# Altium footprint library Ahrist_Library.PcbLib: 172 footprints (part 5 of 11)
Each footprint in its own frame and in the unit in brackets; x right, y up, seen from the top. Pads: shape width x height; smd on the part's side, far side on the other; paste and mask are expansions set on the pad; w line width, h text height; cw(c..) or ccw(c..) is an arc to the next point about the centre after c.
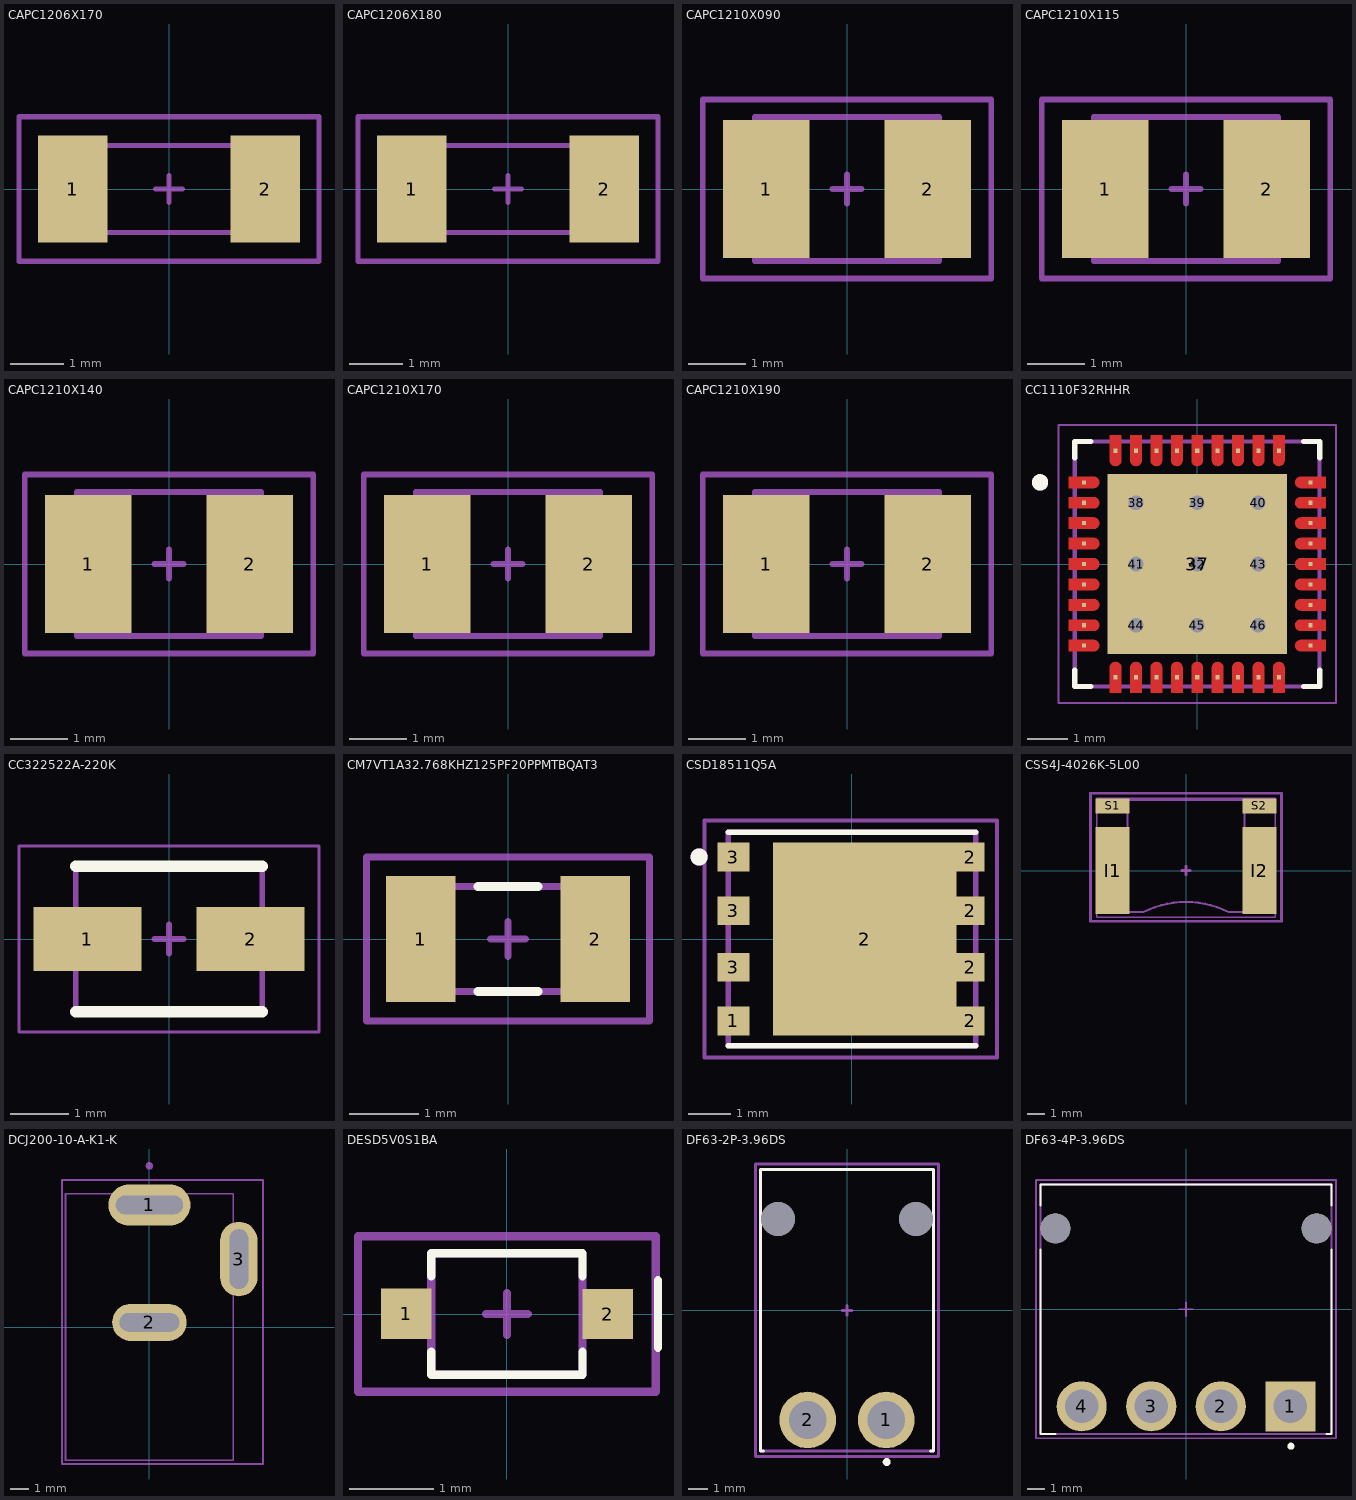
[diagram p4: the footprints below, top view; thin cyan lines are the x and y axes]

## CAPC1206X170 [mm]
pads (2):
  rect 1.3x2 smd mask+0.075: 1(-1.8,0) 2(1.8,0)
Top Courtyard:
  lines w0.1: -2.8,-1.35 -2.8,1.35 -2.425,1.35 2.8,1.35 2.8,-1.35 -2.8,-1.35
Top Assembly:
  lines w0.1: -1.6,-0.813 1.6,-0.813 1.6,0.813 -1.6,0.813 -1.6,-0.813
Top Designator:
  text ".Designator" at -0.805,-0.105 h0.3
Top Component Center:
  lines w0.1: 0,-0.25 0,0 ; 0,0 0,0.25 0,0 ; 0,0 0.25,0 -0.25,0 0,0
3D body "C1206_170.step": height 1.7, standoff 0, extent -1.6,-0.8 1.6,0.8

## CAPC1206X180 [mm] "Chip Capacitor, 2-Leads, Body 3.2x1.60mm, IPC Medium Density"
pads (2):
  rect 1.3x2 smd mask+0.075: 1(-1.8,0) 2(1.8,0)
Top Courtyard:
  lines w0.1: -2.8,-1.35 2.8,-1.35 2.8,1.35 -2.425,1.35 -2.8,1.35 -2.8,-1.35
Top Assembly:
  lines w0.1: -1.6,-0.813 -1.6,0.813 1.6,0.813 1.6,-0.813 -1.6,-0.813
Top Designator:
  text ".Designator" at -0.805,-0.105 h0.3
Top Component Center:
  lines w0.1: 0,-0.25 0,0 ; 0,0 -0.25,0 0.25,0 0,0 ; 0,0 0,0.25 0,0
3D body "C1206_180.step": height 1.8, standoff 0, extent -1.6,-0.8 1.6,0.8

## CAPC1210X090 [mm] "1210 Ceramic Capacitor"
pads (2):
  rect 1.5x2.4 smd mask+0.075: 1(-1.4,0) 2(1.4,0)
Top Courtyard:
  lines w0.1: -2.5,-1.55 2.5,-1.55 2.5,1.55 -2.5,1.55 -2.5,-1.5 -2.5,-1.55
Top Assembly:
  lines w0.1: -1.6,-1.25 -1.6,1.25 1.6,1.25 1.6,-1.25 -1.6,-1.25
Top Designator:
  text ".Designator" at -0.43,-0.263 h0.5
Top Component Center:
  lines w0.1: 0,-0.25 0,0 ; 0,0 -0.25,0 0.25,0 0,0 ; 0,0 0,0.25 0,0
3D body "C1210_090.step": height 0.9, standoff 0, extent -1.6,-1.25 1.6,1.25

## CAPC1210X115 [mm] "1210 Ceramic Capacitor"
pads (2):
  rect 1.5x2.4 smd mask+0.075: 1(-1.4,0) 2(1.4,0)
Top Courtyard:
  lines w0.1: -2.5,-1.55 -2.5,-1.5 -2.5,1.55 2.5,1.55 2.5,-1.55 -2.5,-1.55
Top Assembly:
  lines w0.1: -1.6,-1.25 1.6,-1.25 1.6,1.25 -1.6,1.25 -1.6,-1.25
Top Designator:
  text ".Designator" at -0.43,-0.263 h0.5
Top Component Center:
  lines w0.1: 0,-0.25 0,0 ; 0,0 -0.25,0 0.25,0 0,0 ; 0,0 0,0.25 0,0
3D body "C1210_115.step": height 1.15, standoff 0, extent -1.6,-1.25 1.6,1.25

## CAPC1210X140 [mm] "1210 Ceramic Capacitor"
pads (2):
  rect 1.5x2.4 smd mask+0.075: 1(-1.4,0) 2(1.4,0)
Top Courtyard:
  lines w0.1: -2.5,-1.55 2.5,-1.55 2.5,1.55 -2.5,1.55 -2.5,-1.5 -2.5,-1.55
Top Assembly:
  lines w0.1: -1.6,-1.25 -1.6,1.25 1.6,1.25 1.6,-1.25 -1.6,-1.25
Top Designator:
  text ".Designator" at -0.43,-0.263 h0.5
Top Component Center:
  lines w0.1: 0,-0.25 0,0 ; 0,0 -0.25,0 0.25,0 0,0 ; 0,0 0,0.25 0,0
3D body "C1210_140.step": height 1.4, standoff 0, extent -1.6,-1.25 1.6,1.25

## CAPC1210X170 [mm] "1210 Ceramic Capacitor"
pads (2):
  rect 1.5x2.4 smd mask+0.075: 1(-1.4,0) 2(1.4,0)
Top Courtyard:
  lines w0.1: -2.5,-1.55 -2.5,-1.5 -2.5,1.55 2.5,1.55 2.5,-1.55 -2.5,-1.55
Top Assembly:
  lines w0.1: -1.6,-1.25 1.6,-1.25 1.6,1.25 -1.6,1.25 -1.6,-1.25
Top Designator:
  text ".Designator" at -0.43,-0.263 h0.5
Top Component Center:
  lines w0.1: 0,-0.25 0,0 ; 0,0 -0.25,0 0.25,0 0,0 ; 0,0 0,0.25 0,0
3D body "C1210_170.step": height 1.7, standoff 0, extent -1.6,-1.25 1.6,1.25

## CAPC1210X190 [mm] "1210 Ceramic Capacitor"
pads (2):
  rect 1.5x2.4 smd mask+0.075: 1(-1.4,0) 2(1.4,0)
Top Courtyard:
  lines w0.1: -2.5,-1.55 -2.5,-1.5 -2.5,1.55 2.5,1.55 2.5,-1.55 -2.5,-1.55
Top Assembly:
  lines w0.1: -1.6,-1.25 1.6,-1.25 1.6,1.25 -1.6,1.25 -1.6,-1.25
Top Designator:
  text ".Designator" at -0.43,-0.263 h0.5
Top Component Center:
  lines w0.1: 0,-0.25 0,0 ; 0,0 0,0.25 0,0 ; 0,0 0.25,0 -0.25,0 0,0
3D body "C1210_190.step": height 1.9, standoff 0, extent -1.6,-1.25 1.6,1.25

## CC1110F32RHHR [mm] "IC RF TXRX+MCU ISM<1GHZ 36VQFN"
pads (46):
  rect 0.1x0.1 smd paste-1 mask+0: 1(-2.775,2) 2(-2.775,1.5) 3(-2.775,1) 4(-2.775,0.5) 5(-2.775,0) 6(-2.775,-0.5) 7(-2.775,-1) 8(-2.775,-1.5) 9(-2.775,-2) 10(-2,-2.775) 11(-1.5,-2.775) 12(-1,-2.775) 13(-0.5,-2.775) 14(0,-2.775) 15(0.5,-2.775) 16(1,-2.775) 17(1.5,-2.775) 18(2,-2.775) 19(2.775,-2) 20(2.775,-1.5) 21(2.775,-1) 22(2.775,-0.5) 23(2.775,0) 24(2.775,0.5) 25(2.775,1) 26(2.775,1.5) 27(2.775,2) 28(2,2.775) 29(1.5,2.775) 30(1,2.775) 31(0.5,2.775) 32(0,2.775) 33(-0.5,2.775) 34(-1,2.775) 35(-1.5,2.775) 36(-2,2.775)
  rect 4.4x4.4 smd paste-3: 37(0,0)
  round 0.5 hole 0.356 mask+0: 38(-1.5,1.5) 39(0,1.5) 40(1.5,1.5) 41(-1.5,0) 42(0,0) 43(1.5,0) 44(-1.5,-1.5) 45(0,-1.5) 46(1.5,-1.5)
Top Layer:
  drawing of 36 lines, arcs and shapes, not listed
Top Overlay:
  circle w0.2: c-3.85,2 r0.1
  lines w0.127: -3,-2.6 -3,-3 -2.6,-3 ; -3,2.6 -3,3 -2.6,3 ; 2.6,-3 3,-3 3,-2.6 ; 2.6,3 3,3 3,2.6
Top Paste:
  drawing of 52 lines, arcs and shapes, not listed
Top Solder:
  drawing of 36 lines, arcs and shapes, not listed
Top Courtyard:
  lines w0.05: -3.4,-3.4 -3.4,3.4 3.4,3.4 3.4,-3.4 -3.4,-3.4
Top Assembly:
  circle w0.2: c-3.85,2 r0.1
  lines w0.1: -3,-3 3,-3 3,3 -3,3 -3,-3
Top Designator:
  text ".Designator" at -1.11,0.36 h0.6
Top Component Center:
  lines w0.15: 0,-0.25 0,0 ; 0,0 0,0.25 0,0 ; 0,0 0.25,0 -0.25,0 0,0
3D body "step_temp.STEP": height 1, standoff 0, extent -3,-3 3,3

## CC322522A-220K [mm] "3.2mm x 2.5mm Inductor"
pads (2):
  rect 1.85x1.1 smd: 1(-1.4,0) 2(1.4,0)
Top Overlay:
  lines w0.2: -1.6,-1.25 1.6,-1.25 ; -1.6,1.25 1.6,1.25
Top Courtyard:
  lines w0.05: -2.575,-1.6 2.575,-1.6 2.575,1.6 -2.575,1.6 -2.575,-1.6
Top Assembly:
  lines w0.1: -1.6,-1.25 1.6,-1.25 1.6,1.25 -1.6,1.25 -1.6,-1.25
Top Designator:
  text ".Designator" at -0.836,-0.167 h0.6
Top Component Outline:
  lines w0.1: -1.6,-1.25 1.6,-1.25 1.6,1.25 -1.6,1.25 -1.6,-1.25
Top Component Center:
  lines w0.1: 0,-0.25 0,0 ; 0,0 -0.25,0 0.25,0 0,0 ; 0,0 0,0.25 0,0
3D body "CC322522A-220K.stp": height 2.3, standoff 0, extent -1.796,-1.25 1.796,1.25

## CM7VT1A32.768KHZ125PF20PPMTBQAT3 [mm] "SMD-2 Crystal"
pads (2):
  rect 1x1.8 smd mask+0.075: 1(-1.25,0) 2(1.25,0)
Top Overlay:
  lines w0.127: -0.43,-0.75 0.43,-0.75 ; -0.43,0.75 0.43,0.75
Top Courtyard:
  lines w0.1: -2.025,-1.175 2.025,-1.175 2.025,1.175 -2.025,1.175 -2.025,-1.175
Top Assembly:
  lines w0.1: -1.6,-0.75 1.6,-0.75 1.6,0.75 -1.6,0.75 -1.6,-0.75
Top Component Outline:
  lines w0.1: -1.6,-0.75 -1.6,0.75 1.6,0.75 1.6,-0.75 0.55,-0.75 -1.6,-0.75
Top Component Center:
  lines w0.1: 0,-0.25 0,0 ; 0,0 0,0.25 0,0 ; 0,0 0.25,0 -0.25,0 0,0
3D body "step_temp.STEP": height 0.65, standoff 0, extent -1.6,-0.75 1.6,0.75

## CSD18511Q5A [mm] "40-V, N channel NexFET™ power MOSFET, single SON 5 mm x 6 mm, 2.3 mOhm"
pads (9):
  rect 0.75x0.675 smd paste-1 mask+0.075: 1(-2.776,-1.917) 3(-2.776,-0.66) 3(-2.776,0.66) 3(-2.776,1.917)
  rect 4.295x4.51 smd paste-3 mask+0.075: 2(0.301,0)
  rect 0.655x0.675 smd paste-1 mask+0.075: 2(2.776,-1.917) 2(2.776,-0.66) 2(2.776,0.66) 2(2.776,1.917)
Top Overlay:
  circle w0.3: c-3.578,1.921 r0.05
  lines w0.127: -2.9,-2.5 2.9,-2.5 ; -2.9,2.5 2.9,2.5
Top Paste:
  region: -2.526,-2.171 -3.031,-2.171 -3.031,-1.667 -2.526,-1.667
  region: -2.526,-0.91 -3.026,-0.91 -3.026,-0.41 -2.526,-0.41
  region: -2.526,0.41 -3.027,0.41 -3.027,0.91 -2.526,0.91
  region: -2.526,1.67 -3.03,1.67 -3.03,2.167 -2.526,2.167
  region: 3.026,-2.172 2.531,-2.172 2.531,-1.667 3.026,-1.667
  region: 3.026,-0.91 2.528,-0.91 2.528,-0.41 3.026,-0.41
  region: 3.026,0.41 2.528,0.41 2.528,0.91 3.026,0.91
  region: 3.026,1.668 2.527,1.668 2.527,2.167 3.026,2.167
  region: 1.911,-1.882 0.327,-1.882 0.327,-0.31 1.911,-0.31
  region: -0.174,-1.883 -1.411,-1.883 -1.411,-0.31 -0.174,-0.31
  region: 1.911,0.31 0.327,0.31 0.327,1.88 1.911,1.88
  region: -0.174,0.31 -1.409,0.31 -1.409,1.88 -0.174,1.88
Top Courtyard:
  lines w0.1: -3.45,-2.775 3.4,-2.775 3.4,2.775 -3.45,2.775 -3.45,-2.775
Top Assembly:
  circle w0.3: c-3.575,1.925 r0.05
  lines w0.127: -2.9,-2.5 2.9,-2.5 2.9,2.5 -2.9,2.5 -2.9,-2.5
Top Designator:
  text ".Designator" at -1,-0.312 h1
Top Component Outline:
  lines w0.127: -2.9,-2.5 2.9,-2.5 2.9,2.5 -2.9,2.5 -2.9,-2.5
Top Component Center:
  lines w0.15: 0,-0.25 0,0 ; 0,0 0,0.25 0,0 ; 0,0 0.25,0 -0.25,0 0,0
3D body "CSD18511Q5A.STEP": height 1.1, standoff 0, extent -3,-2.45 3,2.45

## CSS4J-4026K-5L00 [mm] "5 mOhms ±1% 3W Chip Resistor Nonstandard Automotive AEC-Q200, Current Sense Metal Element"
pads (4):
  rect 2x5.1 smd paste-4 mask+0.075: I1(-4.325,0) I2(4.325,0)
  rect 2x0.9 smd mask+0.075: S1(-4.325,3.8) S2(4.325,3.8)
Top Paste:
  region: 4.75,0.15 3.9,0.15 3.9,2.25 4.75,2.25
  region: 4.75,-2.25 3.9,-2.25 3.9,-0.15 4.75,-0.15
  region: -3.9,0.15 -4.75,0.15 -4.75,2.25 -3.9,2.25
  region: -3.9,-2.25 -4.75,-2.25 -4.75,-0.15 -3.9,-0.15
Top Courtyard:
  lines w0.15: -5.625,3 -5.625,-3 5.625,-3 5.625,4.55 -5.625,4.55 -5.625,3.7 ; -5.625,3.025 -5.625,3.675
Top Assembly:
  lines w0.127: -5.03,-2.45 -2.5,-2.45 cw(c0,-7.358) 0,-1.85 cw(c0,-7.358) 2.501,-2.45 5.03,-2.45 5.03,2.45 3.45,2.45 3.45,3.45 5.03,3.45 5.03,4.15 -5.03,4.15 -5.03,3.45 -3.45,3.45 -3.45,2.45 -5.03,2.45 -5.03,-2.45
Top Designator:
  text ".Designator" at -1.565,1.01 h0.6
Top Component Outline:
  lines w0.127: -5.03,-2.45 -2.5,-2.45 cw(c0,-7.358) 0,-1.85 cw(c0,-7.358) 2.501,-2.45 5.03,-2.45 5.03,2.45 3.45,2.45 3.45,3.45 5.03,3.45 5.03,4.15 -5.03,4.15 -5.03,3.45 -3.45,3.45 -3.45,2.45 -5.03,2.45 -5.03,-2.45
Mechanical 15:
  lines w0.1: -5.25,-2.75 5.25,-2.75 5.25,4.25 -5.25,4.25 -5.25,3 -5.25,-2.75
Top Component Center:
  lines w0.15: 0,-0.25 0,0 ; 0,0 -0.25,0 0.25,0 0,0 ; 0,0 0,0.25 0,0
3D body "step_temp.STEP": height 3.21, standoff 0, extent -5.03,-2.411 5.03,4.189

## DCJ200-10-A-K1-K [mm] "Power Barrel Connector Jack 2.05mm ID (0.081\"), 5.50mm OD (0.217\") Through Hole, Right Angle"
pads (3):
  oval 4.4x2.2 hole 1 slot 3.6 at 0 deg: 1(0,6.55)
  oval 4x2 hole 1 slot 3.2 at 0 deg: 2(0,0.25)
  oval 2x4 hole 1 slot 3.2 at 90 deg: 3(4.8,3.65)
Top Courtyard:
  lines w0.1: -4.7,-7.35 -4.7,7.9 6.1,7.9 6.1,-7.35 -4.7,-7.35
Top Assembly:
  circle w0.2: c0,8.65 r0.1
  lines w0.1: -4.5,-7.15 4.5,-7.15 4.5,7.15 -4.5,7.15 -4.5,-7.15
Top Designator:
  text ".Designator" at -1.075,1.6 h2
Top Component Center:
  lines w0.1: 0,-0.25 0,0 ; 0,0 -0.25,0 0.25,0 0,0 ; 0,0 0,0.25 0,0
3D body "step_temp.STEP": height 11, standoff -3.5, extent -4.5,-7.15 5.05,7.15

## DESD5V0S1BA [mm] "DESD5V0S1BA SOD323"
pads (2):
  rect 0.6x0.6 smd mask+0.075: 1(-1.2,0.001) 2(1.2,0)
Top Overlay:
  lines w0.1: -0.9,-0.45 -0.9,-0.725 0.9,-0.725 0.9,-0.45 ; -0.9,0.45 -0.9,0.725 0.9,0.725 0.9,0.45 ; 1.8,-0.4 1.8,0 1.8,0.4
Top Courtyard:
  lines w0.1: -1.775,-0.925 -0.125,-0.925 1.775,-0.925 1.775,0.125 1.775,0.925 -1.775,0.925 -1.775,-0.925
Top Assembly:
  lines w0.1: -0.9,-0.725 0.05,-0.725 0.9,-0.725 0.9,0.725 -0.9,0.725 -0.9,-0.725
Top Component Center:
  lines w0.1: -0.25,0 0,0 ; 0,-0.25 0,0 ; 0,0.25 0,0 ; 0.25,0 0,0
3D body "SOD-323.STEP": height 1.17, standoff 0.02, extent -1.35,-0.723 1.35,0.723

## DF63-2P-3.96DS [mm] "Conn Wire to Board HDR 4 POS 3.96mm Solder RA Thru-Hole 2 Terminal 1 Port Bag"
pads (4):
  round 2.85 hole 1.9: 1(1.98,-5.53) 2(-1.98,-5.53)
  round 1.7 hole 1.7 unplated: ""(-3.48,4.6) ""(3.48,4.6)
Top Overlay:
  circle w0.2: c2,-7.65 r0.1
  lines w0.15: -4.35,6.975 -4.35,-7 -4.35,-7.1 -4.2,-7.1 ; -4.35,7 -4.35,7.1 -4.2,7.1 4.2,7.1 4.35,7.1 4.35,7 ; 4.2,-7.1 4.35,-7.1 4.35,-7 4.35,6.975
Top Courtyard:
  lines w0.15: -4.625,-1.1 -4.625,-7.375 4.625,-7.375 4.625,7.375 -4.625,7.375 -4.625,-1.075
Top Assembly:
  lines w0.15: -4.35,6.975 -4.35,-7 -4.35,-7.1 -4.2,-7.1 ; -4.35,7 -4.35,7.1 -4.2,7.1 4.2,7.1 4.35,7.1 4.35,7 ; -4.175,-7.1 4.225,-7.1 ; 4.2,-7.1 4.35,-7.1 4.35,-7 4.35,6.975
Top Designator:
  text ".Designator" at -2.5,0.286 h1.52
Top Component Outline:
  lines w0.15: -4.35,6.975 -4.35,-7 -4.35,-7.1 -4.2,-7.1 ; -4.35,7 -4.35,7.1 -4.2,7.1 4.2,7.1 4.35,7.1 4.35,7 ; -4.175,-7.1 4.225,-7.1 ; 4.2,-7.1 4.35,-7.1 4.35,-7 4.35,6.975
Top Component Center:
  lines w0.15: 0,-0.25 0,0 ; 0,0 0,0.25 0,0 ; 0,0 0.25,0 -0.25,0 0,0
3D body "DF63M-2P-3.96DS.stp": height 9, standoff -3.5, extent -4.33,-7.1 4.33,7.1

## DF63-4P-3.96DS [mm] "Conn Wire to Board HDR 4 POS 3.96mm Solder RA Thru-Hole 4 Terminal 1 Port Bag"
pads (6):
  rect 2.85x2.85 hole 1.9: 1(5.94,-5.53)
  round 2.85 hole 1.9: 2(1.98,-5.53) 3(-1.98,-5.53) 4(-5.94,-5.53)
  round 1.7 hole 1.7 unplated: ""(-7.44,4.6) ""(7.44,4.6)
Top Overlay:
  circle w0.2: c5.975,-7.8 r0.1
  lines w0.127: -8.29,3.4 -8.29,-7.1 -7.44,-7.1 ; -8.29,5.9 -8.29,7.1 8.29,7.1 8.29,5.9 ; 8,-7.1 8.29,-7.1 8.29,3.4
Top Courtyard:
  lines w0.1: -8.54,-7.35 -8.54,7.35 8.54,7.35 8.54,-7.35 -8.54,-7.35
Top Assembly:
  lines w0.127: -8.29,-7.1 -8.29,7.1 8.29,7.1 8.29,-7.1 -8.29,-7.1
Top Designator:
  text ".Designator" at -2.5,0.286 h1.52
Top Component Center:
  lines w0.1: -0.4,0 0,0 ; 0,-0.4 0,0 ; 0,0.4 0,0 ; 0.4,0 0,0
3D body "DF63-4P-3.96DS--3DModel-STEP-1.STEP": height 9, standoff -3.5, extent -8.29,-7.1 8.29,7.1